# EAGLE library part BLE113 (library gclue)
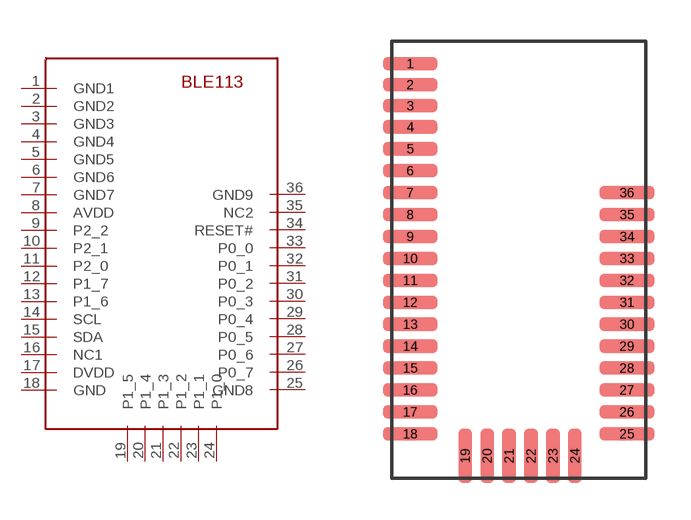
[diagram p3: symbol with the pads of BLE113; footprint BLE113]

Designator prefix -

## BLE113  [BLE113]
1  GND1
2  GND2
3  GND3
4  GND4
5  GND5
6  GND6
7  GND7
8  AVDD
9  P2_2
10  P2_1
11  P2_0
12  P1_7
13  P1_6
14  SCL
15  SDA
16  NC1
17  DVDD
18  GND
19  P1_5
20  P1_4
21  P1_3
22  P1_2
23  P1_1
24  P1_0
25  GND8
26  P0_7
27  P0_6
28  P0_5
29  P0_4
30  P0_3
31  P0_2
32  P0_1
33  P0_0
34  RESET#
35  NC2
36  GND9

## Footprint BLE113 (pad centres in mm)
smd 2 x 0.5: 1 -5.08,5.08; 2 -5.08,4.31; 3 -5.08,3.54; 4 -5.08,2.77; 5 -5.08,1.97; 6 -5.08,1.17; 7 -5.08,0.37; 8 -5.08,-0.43; 9 -5.08,-1.23; 10 -5.08,-2.03; 11 -5.08,-2.83; 12 -5.08,-3.63; 13 -5.08,-4.43; 14 -5.08,-5.23; 15 -5.08,-6.03; 16 -5.08,-6.83; 17 -5.08,-7.63; 18 -5.08,-8.43; 25 2.82,-8.43; 26 2.82,-7.63; 27 2.82,-6.83; 28 2.82,-6.03; 29 2.82,-5.23; 30 2.82,-4.43; 31 2.82,-3.63; 32 2.82,-2.83; 33 2.82,-2.03; 34 2.82,-1.23; 35 2.82,-0.43; 36 2.82,0.37
smd 0.5 x 2: 19 -3.08,-9.23; 20 -2.28,-9.23; 21 -1.48,-9.23; 22 -0.68,-9.23; 23 0.12,-9.23; 24 0.92,-9.23